# EAGLE library part PIXHAWK_PWM_CONNECTOR (library auv)
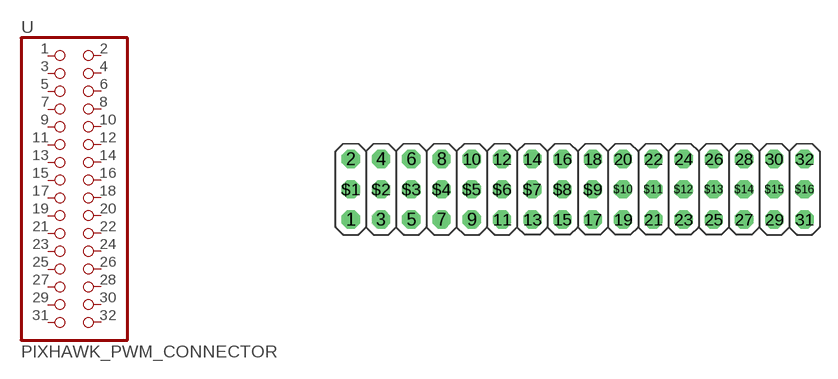
[diagram p46: symbol with the pads of 3X16; footprint 3X16]

Designator prefix -

## PIXHAWK_PWM_CONNECTOR  [3X16]
1  1  pas
2  2  pas
3  3  pas
4  4  pas
5  5  pas
6  6  pas
7  7  pas
8  8  pas
9  9  pas
10  10  pas
11  11  pas
12  12  pas
13  13  pas
14  14  pas
15  15  pas
16  16  pas
17  17  pas
18  18  pas
19  19  pas
20  20  pas
21  21  pas
22  22  pas
23  23  pas
24  24  pas
25  25  pas
26  26  pas
27  27  pas
28  28  pas
29  29  pas
30  30  pas
31  31  pas
32  32  pas

## Footprint 3X16 (pad centres in mm)
PIN HEADER
drill 1.016 octagon: 1 -19.05,-2.54; 2 -19.05,2.54; 3 -16.51,-2.54; 4 -16.51,2.54; 5 -13.97,-2.54; 6 -13.97,2.54; 7 -11.43,-2.54; 8 -11.43,2.54; 9 -8.89,-2.54; 10 -8.89,2.54; 11 -6.35,-2.54; 12 -6.35,2.54; 13 -3.81,-2.54; 14 -3.81,2.54; 15 -1.27,-2.54; 16 -1.27,2.54; 17 1.27,-2.54; 18 1.27,2.54; 19 3.81,-2.54; 20 3.81,2.54; 21 6.35,-2.54; 22 6.35,2.54; 23 8.89,-2.54; 24 8.89,2.54; 25 11.43,-2.54; 26 11.43,2.54; 27 13.97,-2.54; 28 13.97,2.54; 29 16.51,-2.54; 30 16.51,2.54; 31 19.05,-2.54; 32 19.05,2.54; $1 -19.05,0; $2 -16.51,0; $3 -13.97,0; $4 -11.43,0; $5 -8.89,0; $6 -6.35,0; $7 -3.81,0; $8 -1.27,0; $9 1.27,0; $10 3.81,0; $11 6.35,0; $12 8.89,0; $13 11.43,0; $14 13.97,0; $15 16.51,0; $16 19.05,0